# Altium schematic symbol library lib_ic_CON.SchLib: 32 symbols
Pins are listed as number, name and electrical type; pins without a type are passive.

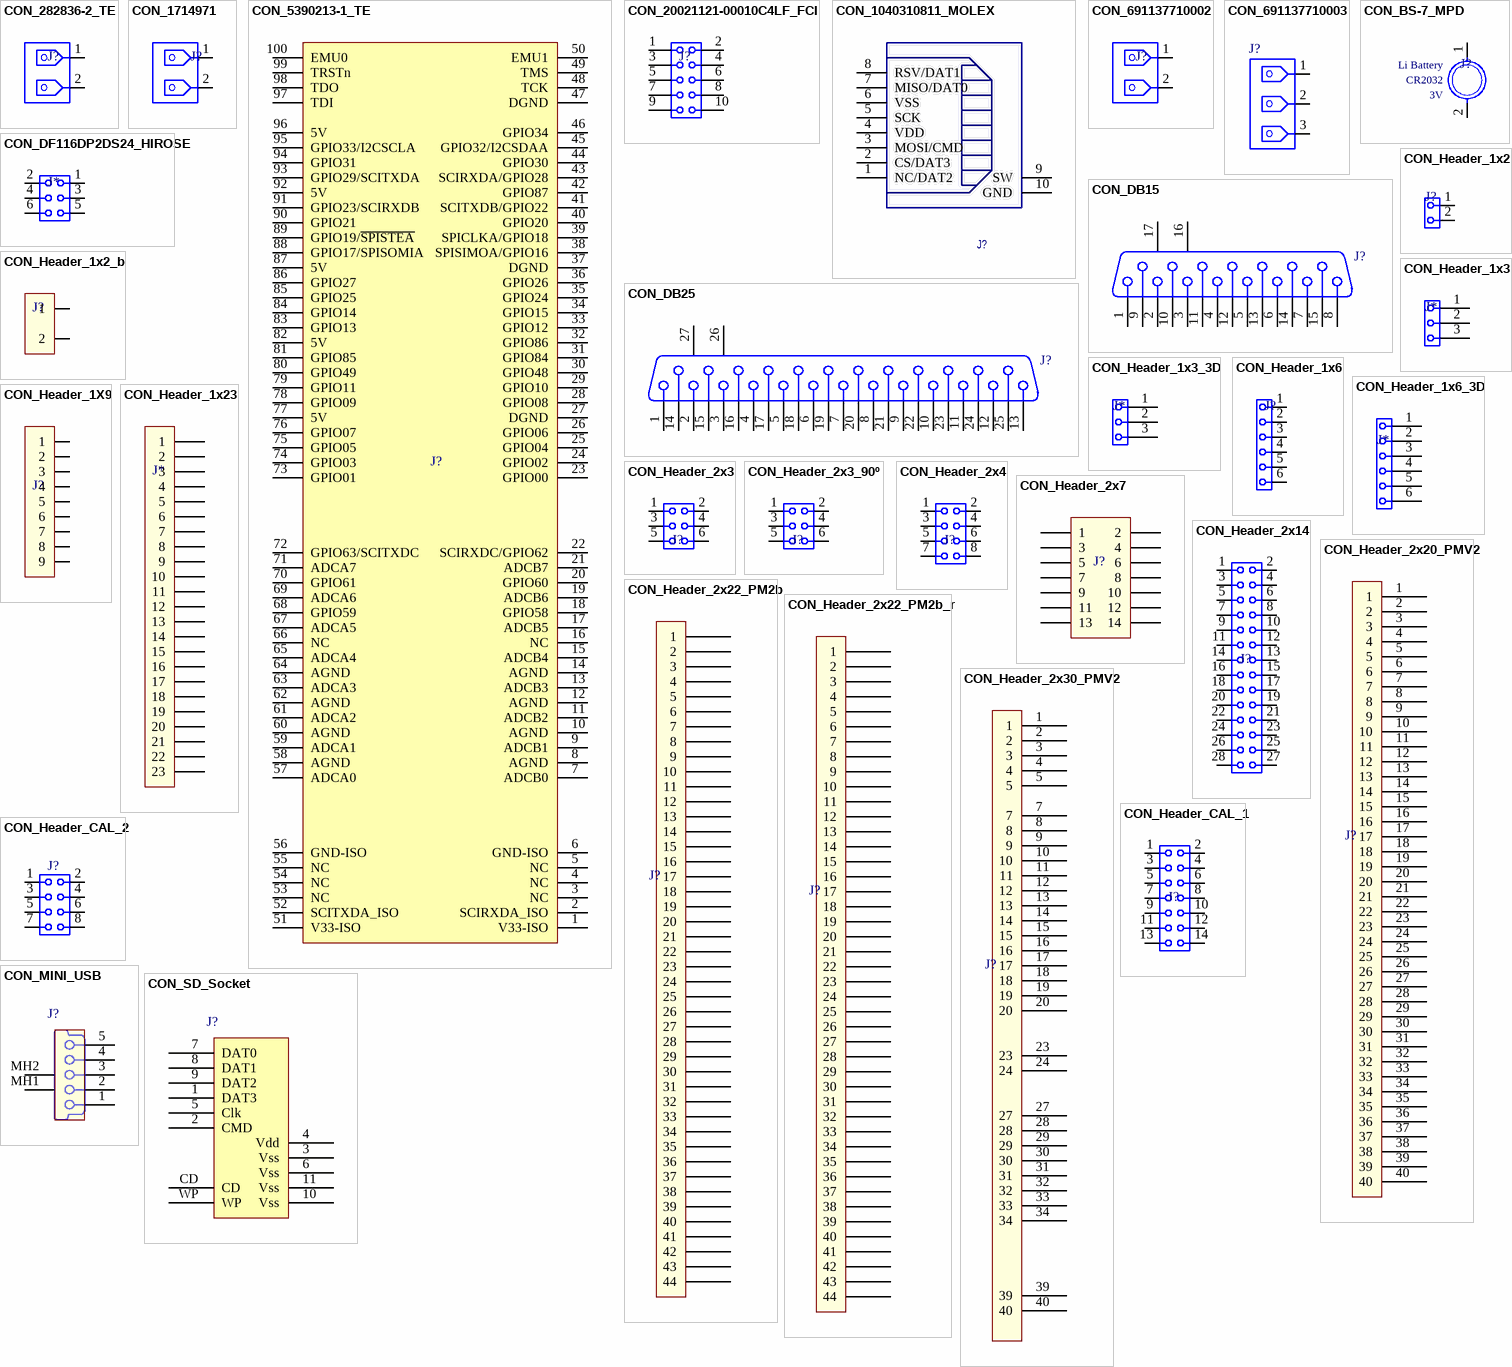
[diagram p0: symbols CON_282836-2_TE to CON_SD_Socket]

## CON_282836-2_TE
designator J?  (value not drawn)
TERM BLOCK 2POS SIDE ENTRY 5MM; Manufacturer Part Number: 282836-2; Manufacturer: TE Connectivity AMP Connectors; Mouser Part Number: 571-2828362; Digikey Part Number: A98076-ND
footprint PHOENIX_1729128 (Terminal Block 5.08mm pitch, vertical, 2 positions pcb mounting, Phoenix Contact)
pins: 1, 2

## CON_1714971
designator J?  (value not drawn)
Large Style 2pos 32a 500vac 24-10awg Green Plastic Interlocking Housing 9.5.0mm Pitch; Manufacturer: Phoenix Contact; Manufacturer Part Number: 1714971; Number of Poles: 2; Voltage Rating: 1kV; Max Supply Voltage: 690V; Number of Levels: 1; Current: 30A; Voltage: 600V; Connector Type: PCB,Terminal Block; Gender: Male; Wire Gauge (Max): 24AWG; Wire Gauge (Min): 10AWG; Pitch: 0.375inch; Stripping Length: 8mm; Approvals: UL,CSA,cULus,EAC; Supplier 1: Digi-Key; Supplier Part Number 1: 277-1271-ND; Category: Test Probes, Leads and Clips; Mount: Through Hole; Number of Pins: 2; Color: Green; Weight: 0.228928oz; Housing Color: Green; Housing Material: Polyamide; Insulation Material: Nylon; Contact Material: Tin; Material: Polyamide; Packaging: Bulk; Max Current Rating: 32A; Package Quantity: 50; Number of Rows: 1; Current Rating: 32A; Number of Positions Per Level: 2; Termination: Screw; Number of Positions: 2; Number of Contacts: 2; Number of Circuits: 2; Orientation: Straight; Series: MKDS; Length: 19.04mm; Width: 21.5mm; Height: 21.5mm; Wire/Cable Gauge: 24AWG; Depth: 12.5mm; Radiation Hardening: No; Lead Free: Lead Free; Flammability Rating: UL94 V-0; RoHS Compliant: Yes; REACH SVHC: No SVHC; ComponentLink1URL: https://datasheet.ciiva.com/16071/1714971-16071957.pdf?src-supplier=Onlinecomponents.com; ComponentLink1Description: https://datasheet.ciiva.com/16071/1714971-16071957.pdf?src-supplier=Onlinecomponents.com; ComponentLink2URL: https://datasheet.ciiva.com/823/1714971-823798.pdf?src-supplier=Digi-Key; ComponentLink2Description: https://datasheet.ciiva.com/823/1714971-823798.pdf?src-supplier=Digi-Key; ComponentLink3URL: https://datasheet.ciiva.com/15169/getdatasheetpartid-177884-15169654.pdf?src-supplier=Verical; ComponentLink3Description: https://datasheet.ciiva.com/15169/getdatasheetpartid-177884-15169654.pdf?src-supplier=Verical; ComponentLink4URL: https://datasheet.ciiva.com/1118/100944-1118424.pdf?src-supplier=Element14; ComponentLink4Description: https://datasheet.ciiva.com/1118/100944-1118424.pdf?src-supplier=Element14; ComponentLink5URL: https://datasheet.ciiva.com/29218/744593-da-01-en-printklemme-mkds-5-2-9-5-29218293.pdf?src-supplier=Conrad; ComponentLink5Description: https://datasheet.ciiva.com/29218/744593-da-01-en-printklemme-mkds-5-2-9-5-29218293.pdf?src-supplier=Conrad
footprint PHOENIX_1714971 (Terminal Block 5.08mm pitch, vertical, 2 positions pcb mounting, Phoenix Contact)
pins: 1, 2

## CON_5390213-1_TE
designator J?  (value not drawn)
CONN SKT DIMM 100POS PCB; Manufacturer Part Number: 5390213-1; Manufacturer: TE Connectivity AMP Connectors; Digikey Part Number: A121375-ND; Mouser Part Number: 571-5390213-1
footprint DIMM1.27-2V100 (Connector; DIMM II; 100 Position; Vertical)
pins: 1 V33-ISO, 2 SCIRXDA_ISO, 3 NC, 4 NC, 5 NC, 6 GND-ISO, 7 ADCB0, 8 AGND, 9 ADCB1, 10 AGND, 11 ADCB2, 12 AGND, 13 ADCB3, 14 AGND, 15 ADCB4, 16 NC, 17 ADCB5, 18 GPIO58, 19 ADCB6, 20 GPIO60, 21 ADCB7, 22 SCIRXDC/GPIO62, 23 GPIO00, 24 GPIO02, 25 GPIO04, 26 GPIO06, 27 DGND, 28 GPIO08, 29 GPIO10, 30 GPIO48, 31 GPIO84, 32 GPIO86, 33 GPIO12, 34 GPIO15, 35 GPIO24, 36 GPIO26, 37 DGND, 38 SPISIMOA/GPIO16, 39 SPICLKA/GPIO18, 40 GPIO20, 41 SCITXDB/GPIO22, 42 GPIO87, 43 SCIRXDA/GPIO28, 44 GPIO30, 45 GPIO32/I2CSDAA, 46 GPIO34, 47 DGND, 48 TCK, 49 TMS, 50 EMU1, 51 V33-ISO, 52 SCITXDA_ISO, 53 NC, 54 NC, 55 NC, 56 GND-ISO, 57 ADCA0, 58 AGND, 59 ADCA1, 60 AGND, 61 ADCA2, 62 AGND, 63 ADCA3, 64 AGND, 65 ADCA4, 66 NC, 67 ADCA5, 68 GPIO59, 69 ADCA6, 70 GPIO61, 71 ADCA7, 72 GPIO63/SCITXDC, 73 GPIO01, 74 GPIO03, 75 GPIO05, 76 GPIO07, 77 5V, 78 GPIO09, 79 GPIO11, 80 GPIO49, 81 GPIO85, 82 5V, 83 GPIO13, 84 GPIO14, 85 GPIO25, 86 GPIO27, 87 5V, 88 GPIO17/SPISOMIA, 89 GPIO19/~{SPISTEA}, 90 GPIO21, 91 GPIO23/SCIRXDB, 92 5V, 93 GPIO29/SCITXDA, 94 GPIO31, 95 GPIO33/I2CSCLA, 96 5V, 97 TDI, 98 TDO, 99 TRSTn, 100 EMU0

## CON_20021121-00010C4LF_FCI
designator J?  (value not drawn)
CONN HEADER 10POS DL UNSHRD SMD; Manufacturer: Amphenol FCI; Manufacturer Part Number: 20021121-00010C4LF; Digikey Part Number: 609-3695-1-ND; Mouser Part Number: 649-202112100010C4LF
footprint FCI_20021121-00010C4LF (CONNECTOR, MICRO TERMINAL STRIP, 10POS, 2ROW, 1.27MM)
pins: 1, 2, 3, 4, 5, 6, 7, 8, 9, 10

## CON_1040310811_MOLEX
designator J?  (value not drawn)
CONN MICRO SD CARD PUSH-PULL R/A; Manufacturer: Molex, LLC; Manufacturer Part Number: 1040310811; Digikey Part Number: WM6357CT-ND; Mouser Part Number: 538-104031-0811
footprint MOLEX_1040310811 (Micro SD Holder)
pins: 1 NC/DAT2, 2 CS/DAT3, 3 MOSI/CMD, 4 VDD, 5 SCK, 6 VSS, 7 MISO/DAT0, 8 RSV/DAT1, 9 SW, 10 GND

## CON_691137710002
designator J?  (value not drawn)
TERM BLK 2POS SIDE ENTRY 5MM PCB; Manufacturer: Wurth Electronics; Manufacturer Part Number: 691137710002; Plating: Copper Alloy; Number of Levels: 1; Number of Positions Per Level: 2; Current: 16A; Voltage: 300V; Wire Gauge (Max): 30AWG; Wire Gauge (Min): 12AWG; Supplier 1: Digi-Key; Supplier Part Number 1: 732-10955-ND; RoHS: No; Category: Terminal Blocks; Stock 1: 1085; Pricing 1: 1=0,38000, 10=0,34000, 50=0,30000, 100=0,27000, 500=0,26000 (USD); Mount: Through Hole; Color: Green; Housing Material: PC; Min Operating Temperature: -30°C; Max Operating Temperature: 120°C; Packaging: Bulk; Termination: Screw; ComponentLink1URL: https://katalog.we-online.de/em/datasheet/691137710002.pdf?src-supplier=Digi-Key; ComponentLink1Description: https://katalog.we-online.de/em/datasheet/691137710002.pdf?src-supplier=Digi-Key
footprint CON_691137710002 (Terminal Block 5.08mm pitch, vertical, 2 positions pcb mounting, Phoenix Contact)
pins: 1, 2

## CON_691137710003
designator J?  (value not drawn)
TERM BLK 3POS SIDE ENTRY 5MM PCB; Manufacturer: Wurth Electronics; Manufacturer Part Number: 691137710003; Supplier 1: Digi-Key; RoHS: No; Stock 1: 910; Pricing 1: 1=0,62000, 10=0,55000, 50=0,49000, 100=0,44000, 500=0,42000 (USD); ComponentLink1URL: https://katalog.we-online.de/em/datasheet/691137710003.pdf?src-supplier=Digi-Key; ComponentLink1Description: https://katalog.we-online.de/em/datasheet/691137710003.pdf?src-supplier=Digi-Key; Supplier Part Number 1: 732-10956-ND
footprint CON_691137710003 (Terminal Block 5.08mm pitch, vertical, 3 positions pcb mounting, Phoenix Contact)
pins: 1, 2, 3

## CON_BS-7_MPD
designator J?  (value not drawn)
HOLDER COINCELL 2032 RETAINRCLIP; Manufacturer Part Number: BS-7; Manufacture: MPD (Memory Protection Devices); Digikey Part Number: BS-7-ND; Mouser Part Number: 122-2420-GR
footprint CON_BAT_2032
pins: 1, 2
text: Li Battery; CR2032; 3V

## CON_DB15
designator J?  (value not drawn)
footprint 788757-1 (Connector; D Subminiature AMPLIMITE 2000; 15 Position; Right Angle)
pins: 1, 2, 3, 4, 5, 6, 7, 8, 9, 10, 11, 12, 13, 14, 15, 16 MH1, 17 MH2

## CON_DB25
designator J?  (value not drawn)
footprint 788755-2 (Connector; D Subminiature AMPLIMITE 2000; 25 Position; Right Angle)
pins: 1, 2, 3, 4, 5, 6, 7, 8, 9, 10, 11, 12, 13, 14, 15, 16, 17, 18, 19, 20, 21, 22, 23, 24, 25, 26 MH1, 27 MH2

## CON_DF116DP2DS24_HIROSE
designator J*  (value not drawn)
CONN HEADER 6POS 2MM RT ANG TIN; Manufacturer Part Number: DF11-6DP-2DS(24); Manufacturer: Hirose Electric Co Ltd; Mouser Part Number: 798-DF11-6DP-2DS24; Digikey Part Number: H10245-ND
footprint DF116DP2DS
pins: 1, 2, 3, 4, 5, 6

## CON_Header_1x2
designator J?  (value not drawn)
footprint RAD2 (Radial Cap, Thru-Hole; 2 Leads; 0.1 in Pin Spacing)
pins: 1, 2

## CON_Header_1x2_b
designator J?  (value not drawn)
footprint RAD2b (Radial Cap, Thru-Hole; 2 Leads; 0.1 in Pin Spacing)
pins: 1, 2

## CON_Header_1x3
designator J*  (value not drawn)
footprint PIN3
pins: 1, 2, 3

## CON_Header_1x3_3D
designator J*  (value not drawn)
footprint PIN3_3Dmodel
pins: 1, 2, 3

## CON_Header_1x6
designator J?  (value not drawn)
footprint PIN6
pins: 1, 2, 3, 4, 5, 6

## CON_Header_1x6_3D
designator J*  (value not drawn)
footprint PIN6_3Dmodel
pins: 1, 2, 3, 4, 5, 6

## CON_Header_1X9
designator J?  (value not drawn)
footprint HDRX9
pins: 1, 2, 3, 4, 5, 6, 7, 8, 9

## CON_Header_1x23
designator J*  (value not drawn)
footprint HEADER_DSP_1
pins: 1, 2, 3, 4, 5, 6, 7, 8, 9, 10, 11, 12, 13, 14, 15, 16, 17, 18, 19, 20, 21, 22, 23

## CON_Header_2x3
designator J?  (value not drawn)
footprint HDR2X3
pins: 1, 2, 3, 4, 5, 6

## CON_Header_2x3_90º
designator J?  (value not drawn)
footprint HDR2X3-90º
pins: 1, 2, 3, 4, 5, 6

## CON_Header_2x4
designator J?  (value not drawn)
footprint HDR2X4
footprint HDR2X4
pins: 1, 2, 3, 4, 5, 6, 7, 8

## CON_Header_2x7
designator J?  (value not drawn)
footprint HDR2X7
pins: 1, 2, 3, 4, 5, 6, 7, 8, 9, 10, 11, 12, 13, 14

## CON_Header_2x14
designator J?  (value not drawn)
footprint HeaderX30
pins: 1, 2, 3, 4, 5, 6, 7, 8, 9, 10, 11, 12, 13, 14, 15, 16, 17, 18, 19, 20, 21, 22, 23, 24, 25, 26, 27, 28

## CON_Header_2x20_PMV2
designator J?  (value not drawn)
footprint HeaderX70
pins: 1, 2, 3, 4, 5, 6, 7, 8, 9, 10, 11, 12, 13, 14, 15, 16, 17, 18, 19, 20, 21, 22, 23, 24, 25, 26, 27, 28, 29, 30, 31, 32, 33, 34, 35, 36, 37, 38, 39, 40

## CON_Header_2x22_PM2b
designator J?  (value not drawn)
footprint Header_2x22
pins: 1, 2, 3, 4, 5, 6, 7, 8, 9, 10, 11, 12, 13, 14, 15, 16, 17, 18, 19, 20, 21, 22, 23, 24, 25, 26, 27, 28, 29, 30, 31, 32, 33, 34, 35, 36, 37, 38, 39, 40, 41, 42, 43, 44

## CON_Header_2x22_PM2b_r
designator J?  (value not drawn)
footprint Header_2x22_r
pins: 1, 2, 3, 4, 5, 6, 7, 8, 9, 10, 11, 12, 13, 14, 15, 16, 17, 18, 19, 20, 21, 22, 23, 24, 25, 26, 27, 28, 29, 30, 31, 32, 33, 34, 35, 36, 37, 38, 39, 40, 41, 42, 43, 44

## CON_Header_2x30_PMV2
designator J?  (value not drawn)
footprint HeaderX70b
pins: 1, 2, 3, 4, 5, 7, 8, 9, 10, 11, 12, 13, 14, 15, 16, 17, 18, 19, 20, 23, 24, 27, 28, 29, 30, 31, 32, 33, 34, 39, 40

## CON_Header_CAL_1
designator J?  (value not drawn)
footprint HeaderCAL_1
pins: 1, 2, 3, 4, 5, 6, 7, 8, 9, 10, 11, 12, 13, 14

## CON_Header_CAL_2
designator J?  (value not drawn)
footprint HeaderCAL_2
pins: 1, 2, 3, 4, 5, 6, 7, 8

## CON_MINI_USB
designator J?  (value not drawn)
CONN RCPT MINI USB2.0 5POS SLD; Manufacturer Part Number: UX60SC-MB-5S8; Manufacturer: Hirose Electric Co Ltd; Digikey Part Number: H11589CT-ND; Mouser Part Number: 798-UX60SC-MB-5S8
footprint UBS MiniB
pins: 1, 2, 3, 4, 5, MH1, MH2

## CON_SD_Socket
designator J?  (value not drawn)
SD Socket; Manufacturer Part Number: 10067847-001RLF; Manufacturer: Amphenol FCI; Digikey Part Number: 609-3956-1-ND; Mouser Part Number: 649-10067847-001RLF
footprint SD CARD SOCKET
pins: 1 DAT3, 2 CMD, 3 Vss, 4 Vdd, 5 Clk, 6 Vss, 7 DAT0, 8 DAT1, 9 DAT2, 10 Vss, 11 Vss, CD, WP